# EAGLE library part SX70-FLASH-EDGE8-MALE (library _openSX70)
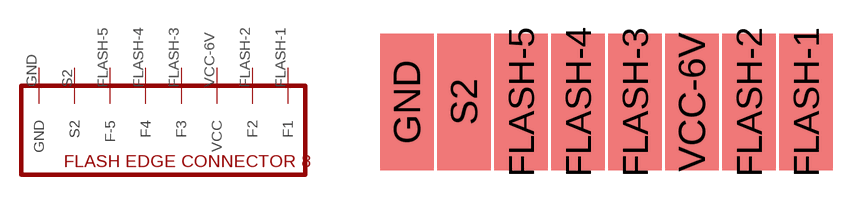
[diagram p6: symbol with the pads of SX70-FLASH-EDGE8; footprint SX70-FLASH-EDGE8]

Designator prefix -

## SX70-FLASH-EDGE8-MALE  [SX70-FLASH-EDGE8]
FLASH-1  F1
FLASH-2  F2
FLASH-3  F3
FLASH-4  F4
FLASH-5  F-5
GND  GND
S2  S2
VCC-6V  VCC

## Footprint SX70-FLASH-EDGE8 (pad centres in mm)
smd 2.4 x 6.09: FLASH-1 8.89,0.001; FLASH-2 6.35,0.001; FLASH-3 1.27,0.001; FLASH-4 -1.27,0.001; FLASH-5 -3.81,0.001; GND -8.89,0.001; S2 -6.35,0.001; VCC-6V 3.81,0.001